# Altium schematic symbol library Schlib1.SCHLIB: 4 symbols
Pins are listed as number, name and electrical type; pins without a type are passive.

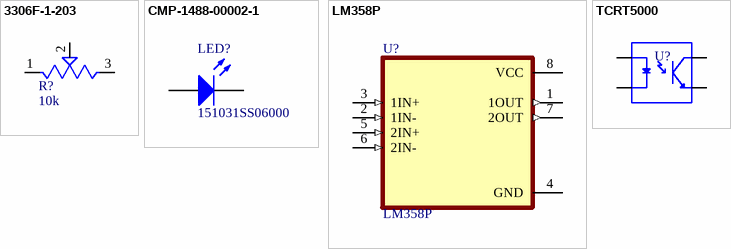
[diagram p0: symbols 3306F-1-203 to TCRT5000]

## 3306F-1-203
designator R?, comment 10k
20 kOhms 0.2W; MP: 3306F-1-203; MF: Bourns; Price: None; Value: *; Package: 6432 Bourns; Purchase-URL: https://pricing.snapeda.com/search/part/3306F-1-203/?ref=eda; SnapEDA_Link: https://www.snapeda.com/parts/3306F-1-203/Bourns/view-part/1444258/?ref=snap; Availability: Good
footprint TRIM_3306F-1-203
pins: 1 CCW, 2 W, 3 CW

## CMP-1488-00002-1
designator LED?, comment 151031SS06000
THT LED round mono-color color lens, WL-TMRW, Super Red; Manufacturer: Wuerth Elektronik; Manufacturer: Wurth Electronics; ComponentLink2URL: http://katalog.we-online.de/pbs/datasheet/7448042001.pdfhttp://katalog.we-online.de/pbs/datasheet/7448042001.pdfhttp://katalog.we-online.de/pbs/datasheet/7448042001.pdfhttp://katalog.we-online.de/pbs/datasheet/151031SS06000.pdf; ComponentLink1URL: http://www.we-online.com; PartNumber: 151031SS06000; ComponentLink2Description: Datasheet; PackageReference: Type 3mm; Emitting color: Super Red; ComponentLink1Description: Manufacturer URL; Manufacturer Part Number: 151031SS06000
footprint WL-TIRW_D3.9H5.3 (THT Infrared Round Waterclear, body diameter 3.9mm)
pins: 1 K, 2 A

## LM358P
designator U?
Dual Operational Amplifiers; MF: Texas Instruments; Package: PDIP-8 Texas Instruments; DigiKey-Purchase-URL: https://snapeda.com/shop?store=DigiKey&id=559457; MP: LM358P; Arrow_Electronics-Purchase-URL: https://snapeda.com/shop?store=Arrow+Electronics&id=559457; Price: None; Texas_Instruments-Purchase-URL: https://snapeda.com/shop?store=Texas+Instruments&id=559457; Value: *; Availability: Unavailable; SnapEDA_Link: https://www.snapeda.com/parts/LM358P/Texas%20Instruments/view-part/559457/?ref=snap; Mouser-Purchase-URL: https://snapeda.com/shop?store=Mouser&id=559457
footprint DIP794W45P254L959H508Q8
pins: 1 1OUT (out), 2 1IN- (in), 3 1IN+ (in), 4 GND (power), 5 2IN+ (in), 6 2IN- (in), 7 2OUT (out), 8 VCC (power)

## TCRT5000
designator U?  (value not drawn)
Reflective Optical Sensor 0.591 _15mm_ PCB Mount; MF: Vishay; MP: TCRT5000; Package: PCB Mount Vishay; Value: *; Price: None; SnapEDA_Link: https://www.snapeda.com/parts/TCRT5000/Vishay%20Semiconductor%20Opto%20Division/view-part/885229/?ref=snap; Availability: Unavailable
footprint OPTO_TCRT5000
pins: A, CATH, COLL, E